# EAGLE library part IC_TD62083 (library akita)
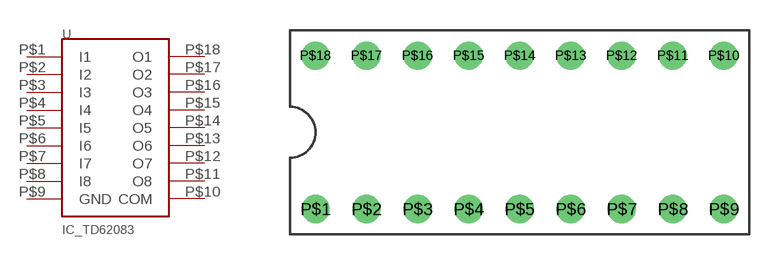
[diagram p113: symbol with the pads of DIP18; footprint DIP18]

Designator prefix -

## IC_TD62083  [DIP18]
P$1  I1
P$2  I2
P$3  I3
P$4  I4
P$5  I5
P$6  I6
P$7  I7
P$8  I8
P$9  GND
P$10  COM
P$11  O8
P$12  O7
P$13  O6
P$14  O5
P$15  O4
P$16  O3
P$17  O2
P$18  O1

## Footprint DIP18 (pad centres in mm)
drill 0.9: P$1 -10.16,-3.81; P$2 -7.62,-3.81; P$3 -5.08,-3.81; P$4 -2.54,-3.81; P$5 0,-3.81; P$6 2.54,-3.81; P$7 5.08,-3.81; P$8 7.62,-3.81; P$9 10.16,-3.81; P$10 10.16,3.81; P$11 7.62,3.81; P$12 5.08,3.81; P$13 2.54,3.81; P$14 0,3.81; P$15 -2.54,3.81; P$16 -5.08,3.81; P$17 -7.62,3.81; P$18 -10.16,3.81